# Altium schematic symbol library ADP1740ACPZ-1.8-R7.SchLib: 1 symbol
Pins are listed as number, name and electrical type; pins without a type are passive.

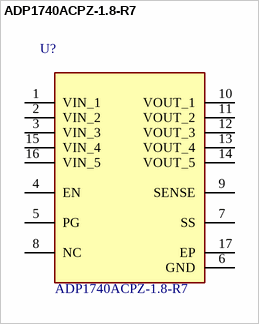
[diagram p0: symbol ADP1740ACPZ-1.8-R7]

## ADP1740ACPZ-1.8-R7
designator U?
LDO Voltage Regulators 2A LDO Fix V-out Family; Manufacturer_Name: Analog Devices; Geometry.Height: 0.8mm; Mouser Part Number: 584-ADP1740ACPZ1.8R7; Mouser Price/Stock: https://www.mouser.co.uk/ProductDetail/Analog-Devices/ADP1740ACPZ-18-R7?qs=WIvQP4zGanhn2jVFfFpW%2Fg%3D%3D; Manufacturer_Part_Number: ADP1740ACPZ-1.8-R7; Datasheet Link: https://componentsearchengine.com/Datasheets/2/ADP1740ACPZ-1.8-R7.pdf
footprint ADP1740ACPZ-1.8-R7
pins: 1 VIN_1, 2 VIN_2, 3 VIN_3, 4 EN, 5 PG, 6 GND, 7 SS, 8 NC, 9 SENSE, 10 VOUT_1, 11 VOUT_2, 12 VOUT_3, 13 VOUT_4, 14 VOUT_5, 15 VIN_4, 16 VIN_5, 17 EP